# EAGLE library part S8205A (library blafoo)
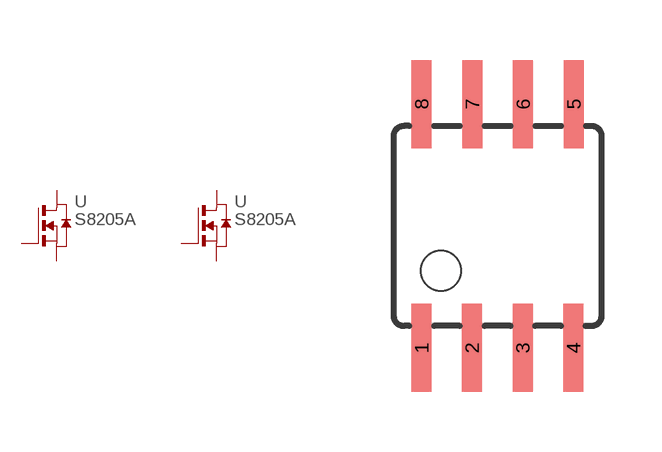
[diagram p0: symbol with the pads of SOIC8; footprint SOIC8]

Designator prefix -

## S8205A  [SOIC8]
1  D  pas
2  S  pas
3  S  pas
4  G  pas
5  G1  pas
6  S1  pas
7  S1  pas
8  D1  pas

## Footprint SOIC8 (pad centres in mm)
Wide Plastic Gull Wing Small Outline Package
smd 0.5 x 2.2: 1 -1.905,-3.048; 2 -0.645,-3.048; 3 0.625,-3.048; 4 1.895,-3.048; 5 1.905,3.048; 6 0.635,3.048; 7 -0.635,3.048; 8 -1.905,3.048